# Altium footprint library Components - 03.08.24 - 23.05.PcbLib: 4 footprints
Each footprint in its own frame and in the unit in brackets; x right, y up, seen from the top. Pads: shape width x height; smd on the part's side, far side on the other; paste and mask are expansions set on the pad; w line width, h text height; cw(c..) or ccw(c..) is an arc to the next point about the centre after c.
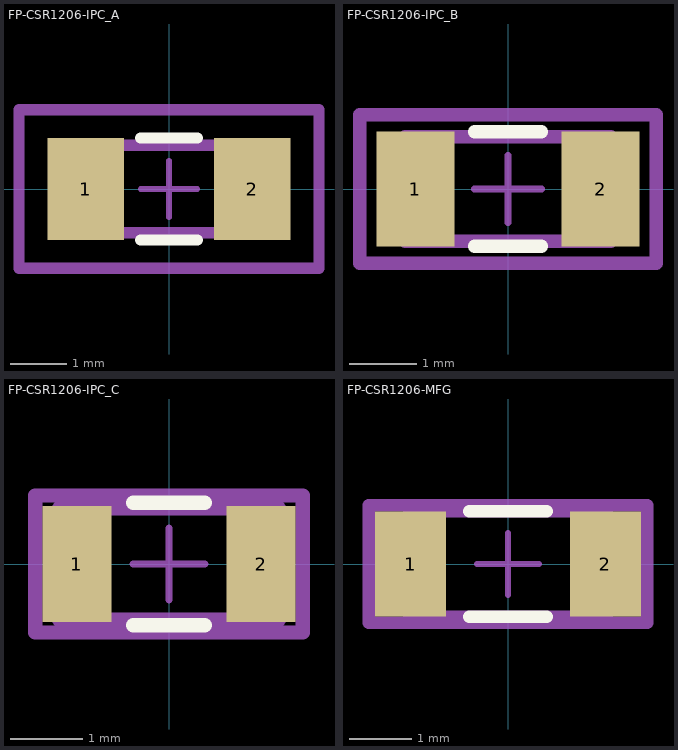
[diagram p0: the footprints below, top view; thin cyan lines are the x and y axes]

## FP-CSR1206-IPC_A [mm]
pads (2):
  rect 1.356x1.808 smd paste+0 mask+0: 1(-1.476,0) 2(1.476,0)
Top Overlay:
  lines w0.2: -0.498,-0.904 0.498,-0.904 ; -0.498,0.904 0.498,0.904
Top Assembly:
  lines w0.2: -2.654,-1.404 2.654,-1.404 2.654,1.404 -2.654,1.404 -2.654,-1.404
  text ".Designator" at 0,0.188 h1
Top 3D Body:
  lines w0.2: -1.525,-0.775 1.525,-0.775 1.525,0.775 -1.525,0.775 -1.525,-0.775
Top Courtyard:
  lines w0.2: -2.654,-1.404 2.654,-1.404 2.654,1.404 -2.654,1.404 -2.654,-1.404
Top Component Center:
  lines w0.1: -0.5,0 0.5,0 ; 0,-0.5 0,0.5
3D body "Res_Stackpole_Electronics_CSR1206FKR500_eec.STEP": height 0.25, standoff 0, extent -2.654,-1.404 2.654,1.404

## FP-CSR1206-IPC_B [mil]
pads (2):
  rect 45.5x67.25 smd paste+0 mask+0: 1(-54.18,0) 2(54.18,0)
Top Overlay:
  lines w7.87: -19.62,-33.63 19.62,-33.63 ; -19.62,33.63 19.62,33.63
Top Assembly:
  lines w7.87: -86.78,-43.47 86.78,-43.47 86.78,43.47 -86.78,43.47 -86.78,-43.47
  text ".Designator" at 0,7.39 h39.37
Top 3D Body:
  lines w7.87: -60.04,-30.51 60.04,-30.51 60.04,30.51 -60.04,30.51 -60.04,-30.51
Top Courtyard:
  lines w7.87: -86.78,-43.47 86.78,-43.47 86.78,43.47 -86.78,43.47 -86.78,-43.47
Top Component Center:
  lines w3.94: -19.68,0 19.68,0 ; 0,-19.68 0,19.68
3D body "Res_Stackpole_Electronics_CSR1206FKR500_eec.STEP": height 10, standoff 0, extent -86.78,-43.47 86.78,43.47

## FP-CSR1206-IPC_C [mm]
pads (2):
  rect 0.956x1.608 smd paste+0 mask+0: 1(-1.276,0) 2(1.276,0)
Top Overlay:
  lines w0.2: -0.498,-0.85 0.498,-0.85 ; -0.498,0.85 0.498,0.85
Top Assembly:
  lines w0.2: -1.854,-0.95 1.854,-0.95 1.854,0.95 -1.854,0.95 -1.854,-0.95
  text ".Designator" at 0,0.188 h1
Top 3D Body:
  lines w0.2: -1.525,-0.775 1.525,-0.775 1.525,0.775 -1.525,0.775 -1.525,-0.775
Top Courtyard:
  lines w0.2: -1.854,-0.95 1.854,-0.95 1.854,0.95 -1.854,0.95 -1.854,-0.95
Top Component Center:
  lines w0.1: -0.5,0 0.5,0 ; 0,-0.5 0,0.5
3D body "Res_Stackpole_Electronics_CSR1206FKR500_eec.STEP": height 0.25, standoff 0, extent -1.854,-0.95 1.854,0.95

## FP-CSR1206-MFG [mm]
pads (2):
  rect 1.15x1.7 smd paste+0 mask+0: 1(-1.575,0) 2(1.575,0)
Top Overlay:
  lines w0.2: -0.625,-0.85 0.625,-0.85 ; -0.625,0.85 0.625,0.85
Top Assembly:
  lines w0.2: -2.25,-0.95 2.25,-0.95 2.25,0.95 -2.25,0.95 -2.25,-0.95
  text ".Designator" at 0,0.188 h1
Top 3D Body:
  lines w0.2: -1.6,-0.85 1.6,-0.85 1.6,0.85 -1.6,0.85 -1.6,-0.85
Top Courtyard:
  lines w0.2: -2.25,-0.95 2.25,-0.95 2.25,0.95 -2.25,0.95 -2.25,-0.95
Top Component Center:
  lines w0.1: -0.5,0 0.5,0 ; 0,-0.5 0,0.5
3D body "Res_Stackpole_Electronics_CSR1206FKR500_eec.STEP": height 0.25, standoff 0, extent -2.25,-0.95 2.25,0.95